# Altium schematic symbol library XT30PW-F.Schlib: 1 symbol
Pins are listed as number, name and electrical type; pins without a type are passive.

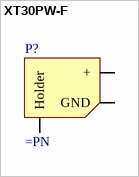
[diagram p0: symbol XT30PW-F]

## XT30PW-F
designator P?
pins: 1 +, 2 GND, 3 Holder